# Altium schematic symbol library LM2678SX-5.0.SchLib: 1 symbol
Pins are listed as number, name and electrical type; pins without a type are passive.

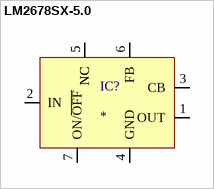
[diagram p0: symbol LM2678SX-5.0]

## LM2678SX-5.0
designator IC?
pins: 1 OUT, 2 IN, 3 CB, 4 GND, 5 NC, 5 NC, 6 FB, 7 ON/~{OFF}